# EAGLE library part TPS2552 (library TPS2552)
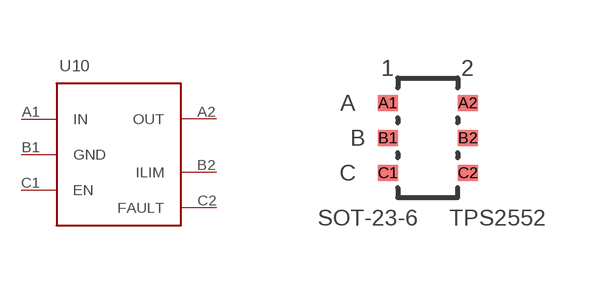
[diagram p0: symbol with the pads of SOT-23-6; footprint SOT-23-6]

Designator prefix -

## TPS2552  [SOT-23-6]
A1  IN  in
A2  OUT  out
B1  GND  pwr
B2  ILIM  out
C1  EN  in
C2  FAULT  out

## Footprint SOT-23-6 (pad centres in mm)
smd 0.5 x 0.4: A1 -1.25,0.875; A2 0.75,0.875; B1 -1.25,0; B2 0.75,0; C1 -1.25,-0.875; C2 0.75,-0.875